# Altium integrated library Analog Devices Data Converters Digital-to-Analog Converters.IntLib: 2231 symbols (part 31 of 181)
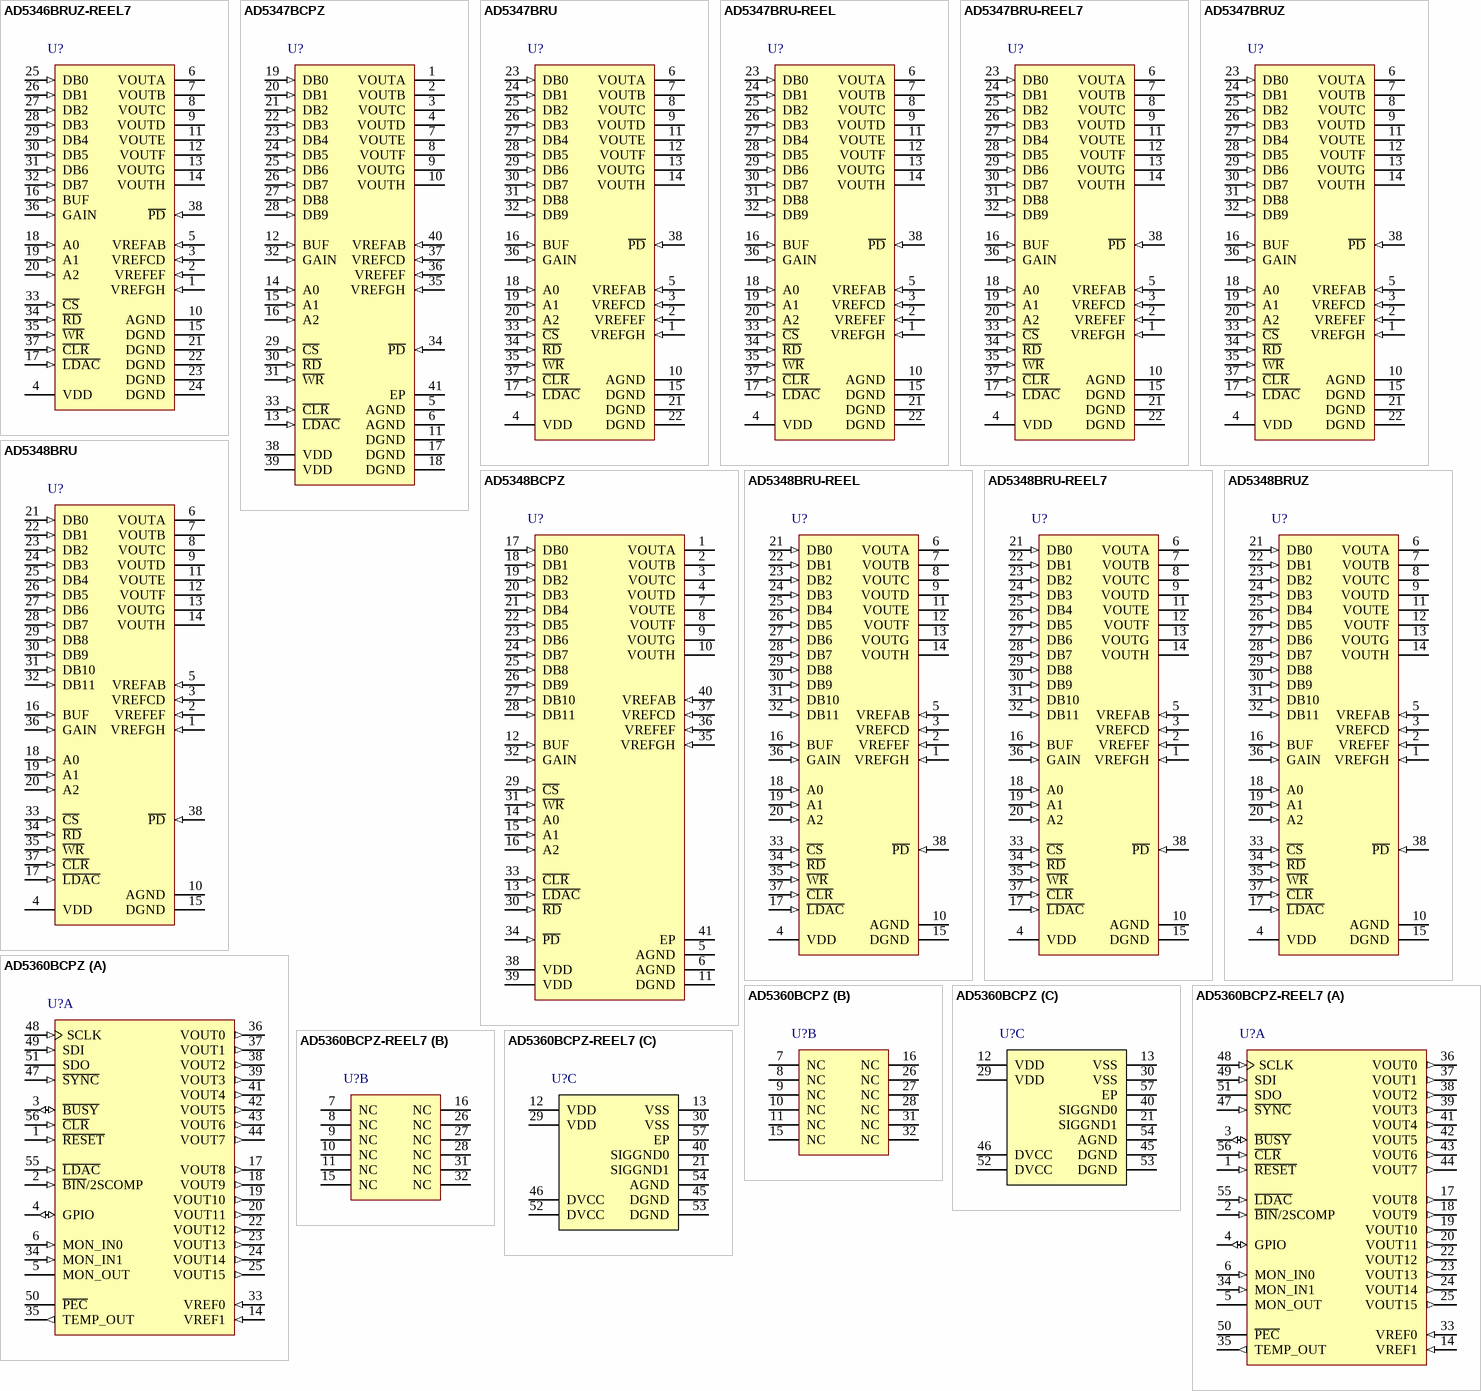
[diagram p144: symbols AD5346BRUZ-REEL7 to AD5360BCPZ-REEL7]

## AD5348BRUZ
designator U?
Octal 12-Bit Voltage Output Digital-to-Analog Converter, 2.5 to 5.5 V, -40 to +105 degC, RU-38, Pb-Free, Tube; Generic Part Number: AD5348; Manufacturer: Analog Devices; PartNumber: AD5348BRUZ; # DAC Outputs: 8; Max V+: 5.5V; Op Pwr Diss: 8.3mW; Resolution (Bits): 12; Settling Time: 8µs; Single Supply: Yes; DatasheetVersion: Rev.0; PackageVersion: Mar-2003; PackageReference: RU-38; PackageDescription: 38-Lead Thin Shrink Small Outline Package [TSSOP]; Supplier 1: Digi-Key; Supplier Part Number 1: AD5348BRUZ-ND; Supplier 2: Newark; Supplier Part Number 2: 59K4018; Supplier 3: Mouser; Supplier Part Number 3: 584-AD5348BRUZ; Packing: Tube; RoHS: Y; Mounting Technology: Surface Mount; Code_JEDEC: MS-153BD-1; ComponentLink1Description: Manufacturer URL; ComponentLink1URL: http://www.analog.com/en/index.html; ComponentLink2Description: Datasheet; ComponentLink2URL: http://www.analog.com/static/imported-files/data_sheets/AD5346_5347_5348.pdf; ComponentLink3Description: Package Specification; ComponentLink3URL: http://www.analog.com/static/imported-files/packages/36817415413609854197792024125RU38.pdf; ComponentLink4Description: Product URL; ComponentLink4URL: http://www.analog.com/en/digital-to-analog-converters/da-converters/ad5348/products/product.html
footprint RU-38_N (TSSOP, 38-Leads, Body 9.7x4.4mm, Pitch 0.5mm, IPC Medium Density)
footprint RU-38_L (TSSOP, 38-Leads, Body 9.7x4.4mm, Pitch 0.5mm, IPC High Density)
footprint RU-38_M (TSSOP, 38-Leads, Body 9.7x4.4mm, Pitch 0.5mm, IPC Low Density)
pins: 1 VREFGH (in) "Reference Input for DACs G and H.", 2 VREFEF (in) "Reference Input for DACs E and F.", 3 VREFCD (in) "Reference Input for DACs C and D.", 4 VDD (power) "Power Supply Pin(s). This part can operate from 2.5 V to 5.5 V, and the supply should be decoupled with a 10 uF capacitor in parallel with a 0.1 uF capacitor to GND. Both VDD pins on the LFCSP package must be at the same (See Datasheet)", 5 VREFAB (in) "Reference Input for DACs A and B.", 6 VOUTA (hiz) "Output of DAC A. Buffered output with rail-to-rail operation.", 7 VOUTB (hiz) "Output of DAC B. Buffered output with rail-to-rail operation.", 8 VOUTC (hiz) "Output of DAC C. Buffered output with rail-to-rail operation.", 9 VOUTD (hiz) "Output of DAC D. Buffered output with rail-to-rail operation.", 10 AGND (power) "Analog Ground. Ground reference for analog circuitry.", 11 VOUTE (hiz) "Output of DAC E. Buffered output with rail-to-rail operation.", 12 VOUTF (hiz) "Output of DAC F. Buffered output with rail-to-rail operation.", 13 VOUTG (hiz) "Output of DAC G. Buffered output with rail-to-rail operation.", 14 VOUTH (hiz) "Output of DAC H. Buffered output with rail-to-rail operation.", 15 DGND (power) "Digital Ground. Ground reference for digital circuitry.", 16 BUF (in) "Buffer Control Pin. Controls whether the reference input to the DAC is buffered or unbuffered.", 17 ~{LDAC} (in) "Active Low Control Input. Updates the DAC registers with the contents of the input registers, which allows all DAC outputs to be simultaneously updated.", 18 A0 (in) "LSB Address Pin. Selects which DAC is to be written to.", 19 A1 (in) "Address Pin. Selects which DAC is to be written to.", 20 A2 (in) "MSB Address Pin. Selects which DAC is to be written to.", 21 DB0 (in) "Twelve Parallel Data Input.", 22 DB1 (in) "Twelve Parallel Data Input.", 23 DB2 (in) "Twelve Parallel Data Input.", 24 DB3 (in) "Twelve Parallel Data Input.", 25 DB4 (in) "Twelve Parallel Data Input.", 26 DB5 (in) "Twelve Parallel Data Input.", 27 DB6 (in) "Twelve Parallel Data Input.", 28 DB7 (in) "Twelve Parallel Data Input.", 29 DB8 (in) "Twelve Parallel Data Input.", 30 DB9 (in) "Twelve Parallel Data Input.", 31 DB10 (in) "Twelve Parallel Data Input.", 32 DB11 (in) "Twelve Parallel Data Input. DB11 is the MSB of these 12 bits.", 33 ~{CS} (in) "Active Low Chip Select Input. Used in conjunction with W\R\ to write data to the parallel interface, or with R\D\ to read back data from a DAC.", 34 ~{RD} (in) "Active Low Read Input. Used in conjunction with C\S\ to read data back from the internal DACs.", 35 ~{WR} (in) "Active Low Write Input. Used in conjunction with C\S\ to write data to the parallel interface.", 36 GAIN (in) "Gain Control Pin. Controls whether the output range from the DAC is 0 V to VREF or 0 V to 2 x VREF.", 37 ~{CLR} (in) "Asynchronous Active Low Control Input. Clears all input registers and DAC registers to zeros.", 38 ~{PD} (in) "Power-Down Pin. This active low control pin puts all DACs into power-down mode."

## AD5360BCPZ
designator U?
16-Bit Digital-to-Analog Converter with Serial Interface, -40 to +85 degC, CP-56-1, Pb-Free, Tray; Generic Part Number: AD5360; Manufacturer: Analog Devices; PartNumber: AD5360BCPZ; # DAC Outputs: 16; Max V+: 16.5V; Op Pwr Diss: 130mW; Settling Time: 20µs; Single Supply: No; DatasheetVersion: Rev.A; PackageVersion: 112805-0; PackageReference: CP-56-1; PackageDescription: 56-Lead Lead Frame Chip Scale Package [LFCSP_VQ], 8 x 8 mm Body, Very Thin Quad; Supplier 1: Digi-Key; Supplier Part Number 1: AD5360BCPZ-ND; Supplier 2: Farnell; Supplier Part Number 2: 1607241; Supplier 3: Mouser; Supplier Part Number 3: 584-AD5360BCPZ; Packing: Tray; Resolution (Bits): 16; RoHS: Y; Mounting Technology: Surface Mount; Code_JEDEC: MO-220-VLLD-2; ComponentLink1Description: Manufacturer URL; ComponentLink1URL: http://www.analog.com/en/index.html; ComponentLink2Description: Datasheet; ComponentLink2URL: http://www.analog.com/static/imported-files/data_sheets/AD5360_5361.pdf; ComponentLink3Description: Package Specification; ComponentLink3URL: http://www.analog.com/static/imported-files/packages/32698137492825CP_56_1.pdf; ComponentLink4Description: Product URL; ComponentLink4URL: http://www.analog.com/en/digital-to-analog-converters/da-converters/ad5360/products/product.html; ComponentLink5Description: Reference Design URL; ComponentLink5URL: http://www.analog.com/en/digital-to-analog-converters/da-converters/ad5360/products/product.html#prod_cross_sell
footprint CP-56-1_N (QFN, 56-Leads, Body 8x8mm, Pitch 0.5mm, Thermal Pad 6.1x6.1mm, IPC Medium Density)
footprint CP-56-1_L (QFN, 56-Leads, Body 8x8mm, Pitch 0.5mm, Thermal Pad 6.1x6.1mm, IPC High Density)
footprint CP-56-1_M (QFN, 56-Leads, Body 8x8mm, Pitch 0.5mm, Thermal Pad 6.1x6.1mm, IPC Low Density)
part A pins: 1 ~{RESET} (in) "Digital Reset Input.", 2 ~{BIN}/2SCOMP (in) "Data Format Digital Input. Connecting this pin to DGND selects offset binary. Connecting this pin to logic 1 selects twos complement. This input has a weak pull-down.", 3 ~{BUSY} (io) "Digital Input/Open-Drain Output. B\U\S\Y\ is open drain when it is an output. See the B\U\S\Y\ and L\D\A\C\ Functions section for more information.", 4 GPIO (io) "Digital I/O Pin. This pin can be configured as an input or output that can be read or programmed high or low via the serial interface. When configured as an input, it has a weak pull-down.", 5 MON_OUT (hiz) "Analog Multiplexer Output. Any DAC output, the MON_IN0 input, or the MON_IN1 input can be switched to this output.", 6 MON_IN0 (in) "Analog Multiplexer Input. Can be switched to MON_OUT.", 14 VREF1 (in) "Reference Input for DAC 8 to DAC 15. This voltage is referred to AGND.", 17 VOUT8 (out) "DAC Output. Buffered analog outputs for each of the 16 DAC channels. Each analog output is capable of driving an output load of 10 k ohm to ground. Typical output impedance of these amplifiers is 0.5 ohm..", 18 VOUT9 (out) "DAC Output. Buffered analog outputs for each of the 16 DAC channels. Each analog output is capable of driving an output load of 10 k ohm to ground. Typical output impedance of these amplifiers is 0.5 ohm..", 19 VOUT10 (out) "DAC Output. Buffered analog outputs for each of the 16 DAC channels. Each analog output is capable of driving an output load of 10 k ohm to ground. Typical output impedance of these amplifiers is 0.5 ohm..", 20 VOUT11 (out) "DAC Output. Buffered analog outputs for each of the 16 DAC channels. Each analog output is capable of driving an output load of 10 k ohm to ground. Typical output impedance of these amplifiers is 0.5 ohm..", 22 VOUT12 (out) "DAC Output. Buffered analog outputs for each of the 16 DAC channels. Each analog output is capable of driving an output load of 10 k ohm to ground. Typical output impedance of these amplifiers is 0.5 ohm..", 23 VOUT13 (out) "DAC Output. Buffered analog outputs for each of the 16 DAC channels. Each analog output is capable of driving an output load of 10 k ohm to ground. Typical output impedance of these amplifiers is 0.5 ohm..", 24 VOUT14 (out) "DAC Output. Buffered analog outputs for each of the 16 DAC channels. Each analog output is capable of driving an output load of 10 k ohm to ground. Typical output impedance of these amplifiers is 0.5 ohm..", 25 VOUT15 (out) "DAC Output. Buffered analog outputs for each of the 16 DAC channels. Each analog output is capable of driving an output load of 10 k ohm to ground. Typical output impedance of these amplifiers is 0.5 ohm..", 33 VREF0 (in) "Reference Input for DAC 0 to DAC 7. This voltage is referred to AGND.", 34 MON_IN1 (in) "Analog Multiplexer Input. Can be switched to MON_OUT.", 35 TEMP_OUT (out) "Provides an output voltage proportional to chip temperature. This is typically 1.46 V at 25degreesC with an output variation of 4.4 mV/degreesC.", 36 VOUT0 (out) "DAC Output. Buffered analog outputs for each of the 16 DAC channels. Each analog output is capable of driving an output load of 10 k ohm to ground. Typical output impedance of these amplifiers is 0.5 ohm..", 37 VOUT1 (out) "DAC Output. Buffered analog outputs for each of the 16 DAC channels. Each analog output is capable of driving an output load of 10 k ohm to ground. Typical output impedance of these amplifiers is 0.5 ohm..", 38 VOUT2 (out) "DAC Output. Buffered analog outputs for each of the 16 DAC channels. Each analog output is capable of driving an output load of 10 k ohm to ground. Typical output impedance of these amplifiers is 0.5 ohm..", 39 VOUT3 (out) "DAC Output. Buffered analog outputs for each of the 16 DAC channels. Each analog output is capable of driving an output load of 10 k ohm to ground. Typical output impedance of these amplifiers is 0.5 ohm..", 41 VOUT4 (out) "DAC Output. Buffered analog outputs for each of the 16 DAC channels. Each analog output is capable of driving an output load of 10 k ohm to ground. Typical output impedance of these amplifiers is 0.5 ohm..", 42 VOUT5 (out) "DAC Output. Buffered analog outputs for each of the 16 DAC channels. Each analog output is capable of driving an output load of 10 k ohm to ground. Typical output impedance of these amplifiers is 0.5 ohm..", 43 VOUT6 (out) "DAC Output. Buffered analog outputs for each of the 16 DAC channels. Each analog output is capable of driving an output load of 10 k ohm to ground. Typical output impedance of these amplifiers is 0.5 ohm..", 44 VOUT7 (out) "DAC Output. Buffered analog outputs for each of the 16 DAC channels. Each analog output is capable of driving an output load of 10 k ohm to ground. Typical output impedance of these amplifiers is 0.5 ohm..", 47 ~{SYNC} (in) "Active Low or S\Y\N\C\ Input for SPI Interface. This is the frame synchronization signal for the SPI serial interface. See Figure 4, Figure 5, and the Serial Interface section for more details.", 48 SCLK (in) "Serial Clock Input for SPI Interface. See Figure 4, Figure 5, and the Serial Interface section for more details.", 49 SDI (in) "Serial Data Input for SPI Interface. See Figure 4, Figure 5, and the Serial Interface section for more details.", 50 ~{PEC} (oc) "Packet Error Check Output. This is an open-drain output with a 50 k ohm pull-up that goes low if the packet error check fails.", 51 SDO (hiz) "Serial Data Output for SPI Interface. See Figure 4, Figure 5, and the Serial Interface section for more details.", 55 ~{LDAC} (in) "Load DAC Logic Input (Active Low). See the B\U\S\Y\ and L\D\A\C\ Functions section for more information.", 56 ~{CLR} (in) "Asynchronous Clear Input (Level Sensitive, Active Low). See the Clear Function section for more information."
part B pins: 7 NC "No Connect.", 8 NC "No Connect.", 9 NC "No Connect.", 10 NC "No Connect.", 11 NC "No Connect.", 15 NC "No Connect.", 16 NC "No Connect.", 26 NC "No Connect.", 27 NC "No Connect.", 28 NC "No Connect.", 31 NC "No Connect.", 32 NC "No Connect."
part C pins: 12 VDD (power) "Positive Analog Power Supply; +9 V to +16.5 V for specified performance. These pins should be decoupled with 0.1 uF ceramic capacitors and 10 uF capacitors.", 13 VSS (power) "Negative Analog Power Supply; -16.5 V to -8 V for specified performance. These pins should be decoupled with 0.1 uF ceramic capacitors and 10 uF capacitors.", 21 SIGGND1 (power) "Reference Ground for DAC 8 to DAC 15. VOUT8 to VOUT15 are referenced to this voltage.", 29 VDD (power) "Positive Analog Power Supply; +9 V to +16.5 V for specified performance. These pins should be decoupled with 0.1 uF ceramic capacitors and 10 uF capacitors.", 30 VSS (power) "Negative Analog Power Supply; -16.5 V to -8 V for specified performance. These pins should be decoupled with 0.1 uF ceramic capacitors and 10 uF capacitors.", 40 SIGGND0 (power) "Reference Ground for DAC 0 to DAC 7. VOUT0 to VOUT7 are referenced to this voltage.", 45 DGND (power) "Ground for All Digital Circuitry. Both DGND pins should be connected to the DGND plane.", 46 DVCC (power) "Logic Power Supply; 2.5 V to 5.5 V. These pins should be decoupled with 0.1 uF ceramic capacitors and 10 uF capacitors.", 52 DVCC (power) "Logic Power Supply; 2.5 V to 5.5 V. These pins should be decoupled with 0.1 uF ceramic capacitors and 10 uF capacitors.", 53 DGND (power) "Ground for All Digital Circuitry. Both DGND pins should be connected to the DGND plane.", 54 AGND (power) "Ground for All Analog Circuitry. The AGND pin should be connected to the AGND plane.", 57 EP (power) "Exposed Paddle."

## AD5360BCPZ-REEL7
designator U?
16-Bit Digital-to-Analog Converter with Serial Interface, -40 to +85 degC, CP-56-1, Pb-Free, Reel; Generic Part Number: AD5360; Manufacturer: Analog Devices; PartNumber: AD5360BCPZ-REEL7; # DAC Outputs: 16; Max V+: 16.5V; Op Pwr Diss: 130mW; Settling Time: 20µs; Single Supply: No; DatasheetVersion: Rev.A; PackageVersion: 112805-0; PackageReference: CP-56-1; PackageDescription: 56-Lead Lead Frame Chip Scale Package [LFCSP_VQ], 8 x 8 mm Body, Very Thin Quad; Supplier 1: Digi-Key; Supplier Part Number 1: AD5360BCPZ-REEL7-ND; Supplier 2: Mouser; Supplier Part Number 2: 584-AD5360BCPZ-R7; Packing: Reel; Resolution (Bits): 16; RoHS: Y; Mounting Technology: Surface Mount; Code_JEDEC: MO-220-VLLD-2; ComponentLink1Description: Manufacturer URL; ComponentLink1URL: http://www.analog.com/en/index.html; ComponentLink2Description: Datasheet; ComponentLink2URL: http://www.analog.com/static/imported-files/data_sheets/AD5360_5361.pdf; ComponentLink3Description: Package Specification; ComponentLink3URL: http://www.analog.com/static/imported-files/packages/32698137492825CP_56_1.pdf; ComponentLink4Description: Product URL; ComponentLink4URL: http://www.analog.com/en/digital-to-analog-converters/da-converters/ad5360/products/product.html; ComponentLink5Description: Reference Design URL; ComponentLink5URL: http://www.analog.com/en/digital-to-analog-converters/da-converters/ad5360/products/product.html#prod_cross_sell
footprint CP-56-1_N (QFN, 56-Leads, Body 8x8mm, Pitch 0.5mm, Thermal Pad 6.1x6.1mm, IPC Medium Density)
footprint CP-56-1_L (QFN, 56-Leads, Body 8x8mm, Pitch 0.5mm, Thermal Pad 6.1x6.1mm, IPC High Density)
footprint CP-56-1_M (QFN, 56-Leads, Body 8x8mm, Pitch 0.5mm, Thermal Pad 6.1x6.1mm, IPC Low Density)
part A pins: 1 ~{RESET} (in) "Digital Reset Input.", 2 ~{BIN}/2SCOMP (in) "Data Format Digital Input. Connecting this pin to DGND selects offset binary. Connecting this pin to logic 1 selects twos complement. This input has a weak pull-down.", 3 ~{BUSY} (io) "Digital Input/Open-Drain Output. B\U\S\Y\ is open drain when it is an output. See the B\U\S\Y\ and L\D\A\C\ Functions section for more information.", 4 GPIO (io) "Digital I/O Pin. This pin can be configured as an input or output that can be read or programmed high or low via the serial interface. When configured as an input, it has a weak pull-down.", 5 MON_OUT (hiz) "Analog Multiplexer Output. Any DAC output, the MON_IN0 input, or the MON_IN1 input can be switched to this output.", 6 MON_IN0 (in) "Analog Multiplexer Input. Can be switched to MON_OUT.", 14 VREF1 (in) "Reference Input for DAC 8 to DAC 15. This voltage is referred to AGND.", 17 VOUT8 (out) "DAC Output. Buffered analog outputs for each of the 16 DAC channels. Each analog output is capable of driving an output load of 10 k ohm to ground. Typical output impedance of these amplifiers is 0.5 ohm..", 18 VOUT9 (out) "DAC Output. Buffered analog outputs for each of the 16 DAC channels. Each analog output is capable of driving an output load of 10 k ohm to ground. Typical output impedance of these amplifiers is 0.5 ohm..", 19 VOUT10 (out) "DAC Output. Buffered analog outputs for each of the 16 DAC channels. Each analog output is capable of driving an output load of 10 k ohm to ground. Typical output impedance of these amplifiers is 0.5 ohm..", 20 VOUT11 (out) "DAC Output. Buffered analog outputs for each of the 16 DAC channels. Each analog output is capable of driving an output load of 10 k ohm to ground. Typical output impedance of these amplifiers is 0.5 ohm..", 22 VOUT12 (out) "DAC Output. Buffered analog outputs for each of the 16 DAC channels. Each analog output is capable of driving an output load of 10 k ohm to ground. Typical output impedance of these amplifiers is 0.5 ohm..", 23 VOUT13 (out) "DAC Output. Buffered analog outputs for each of the 16 DAC channels. Each analog output is capable of driving an output load of 10 k ohm to ground. Typical output impedance of these amplifiers is 0.5 ohm..", 24 VOUT14 (out) "DAC Output. Buffered analog outputs for each of the 16 DAC channels. Each analog output is capable of driving an output load of 10 k ohm to ground. Typical output impedance of these amplifiers is 0.5 ohm..", 25 VOUT15 (out) "DAC Output. Buffered analog outputs for each of the 16 DAC channels. Each analog output is capable of driving an output load of 10 k ohm to ground. Typical output impedance of these amplifiers is 0.5 ohm..", 33 VREF0 (in) "Reference Input for DAC 0 to DAC 7. This voltage is referred to AGND.", 34 MON_IN1 (in) "Analog Multiplexer Input. Can be switched to MON_OUT.", 35 TEMP_OUT (out) "Provides an output voltage proportional to chip temperature. This is typically 1.46 V at 25degreesC with an output variation of 4.4 mV/degreesC.", 36 VOUT0 (out) "DAC Output. Buffered analog outputs for each of the 16 DAC channels. Each analog output is capable of driving an output load of 10 k ohm to ground. Typical output impedance of these amplifiers is 0.5 ohm..", 37 VOUT1 (out) "DAC Output. Buffered analog outputs for each of the 16 DAC channels. Each analog output is capable of driving an output load of 10 k ohm to ground. Typical output impedance of these amplifiers is 0.5 ohm..", 38 VOUT2 (out) "DAC Output. Buffered analog outputs for each of the 16 DAC channels. Each analog output is capable of driving an output load of 10 k ohm to ground. Typical output impedance of these amplifiers is 0.5 ohm..", 39 VOUT3 (out) "DAC Output. Buffered analog outputs for each of the 16 DAC channels. Each analog output is capable of driving an output load of 10 k ohm to ground. Typical output impedance of these amplifiers is 0.5 ohm..", 41 VOUT4 (out) "DAC Output. Buffered analog outputs for each of the 16 DAC channels. Each analog output is capable of driving an output load of 10 k ohm to ground. Typical output impedance of these amplifiers is 0.5 ohm..", 42 VOUT5 (out) "DAC Output. Buffered analog outputs for each of the 16 DAC channels. Each analog output is capable of driving an output load of 10 k ohm to ground. Typical output impedance of these amplifiers is 0.5 ohm..", 43 VOUT6 (out) "DAC Output. Buffered analog outputs for each of the 16 DAC channels. Each analog output is capable of driving an output load of 10 k ohm to ground. Typical output impedance of these amplifiers is 0.5 ohm..", 44 VOUT7 (out) "DAC Output. Buffered analog outputs for each of the 16 DAC channels. Each analog output is capable of driving an output load of 10 k ohm to ground. Typical output impedance of these amplifiers is 0.5 ohm..", 47 ~{SYNC} (in) "Active Low or S\Y\N\C\ Input for SPI Interface. This is the frame synchronization signal for the SPI serial interface. See Figure 4, Figure 5, and the Serial Interface section for more details.", 48 SCLK (in) "Serial Clock Input for SPI Interface. See Figure 4, Figure 5, and the Serial Interface section for more details.", 49 SDI (in) "Serial Data Input for SPI Interface. See Figure 4, Figure 5, and the Serial Interface section for more details.", 50 ~{PEC} (oc) "Packet Error Check Output. This is an open-drain output with a 50 k ohm pull-up that goes low if the packet error check fails.", 51 SDO (hiz) "Serial Data Output for SPI Interface. See Figure 4, Figure 5, and the Serial Interface section for more details.", 55 ~{LDAC} (in) "Load DAC Logic Input (Active Low). See the B\U\S\Y\ and L\D\A\C\ Functions section for more information.", 56 ~{CLR} (in) "Asynchronous Clear Input (Level Sensitive, Active Low). See the Clear Function section for more information."
part B pins: 7 NC "No Connect.", 8 NC "No Connect.", 9 NC "No Connect.", 10 NC "No Connect.", 11 NC "No Connect.", 15 NC "No Connect.", 16 NC "No Connect.", 26 NC "No Connect.", 27 NC "No Connect.", 28 NC "No Connect.", 31 NC "No Connect.", 32 NC "No Connect."
part C pins: 12 VDD (power) "Positive Analog Power Supply; +9 V to +16.5 V for specified performance. These pins should be decoupled with 0.1 uF ceramic capacitors and 10 uF capacitors.", 13 VSS (power) "Negative Analog Power Supply; -16.5 V to -8 V for specified performance. These pins should be decoupled with 0.1 uF ceramic capacitors and 10 uF capacitors.", 21 SIGGND1 (power) "Reference Ground for DAC 8 to DAC 15. VOUT8 to VOUT15 are referenced to this voltage.", 29 VDD (power) "Positive Analog Power Supply; +9 V to +16.5 V for specified performance. These pins should be decoupled with 0.1 uF ceramic capacitors and 10 uF capacitors.", 30 VSS (power) "Negative Analog Power Supply; -16.5 V to -8 V for specified performance. These pins should be decoupled with 0.1 uF ceramic capacitors and 10 uF capacitors.", 40 SIGGND0 (power) "Reference Ground for DAC 0 to DAC 7. VOUT0 to VOUT7 are referenced to this voltage.", 45 DGND (power) "Ground for All Digital Circuitry. Both DGND pins should be connected to the DGND plane.", 46 DVCC (power) "Logic Power Supply; 2.5 V to 5.5 V. These pins should be decoupled with 0.1 uF ceramic capacitors and 10 uF capacitors.", 52 DVCC (power) "Logic Power Supply; 2.5 V to 5.5 V. These pins should be decoupled with 0.1 uF ceramic capacitors and 10 uF capacitors.", 53 DGND (power) "Ground for All Digital Circuitry. Both DGND pins should be connected to the DGND plane.", 54 AGND (power) "Ground for All Analog Circuitry. The AGND pin should be connected to the AGND plane.", 57 EP (power) "Exposed Paddle."

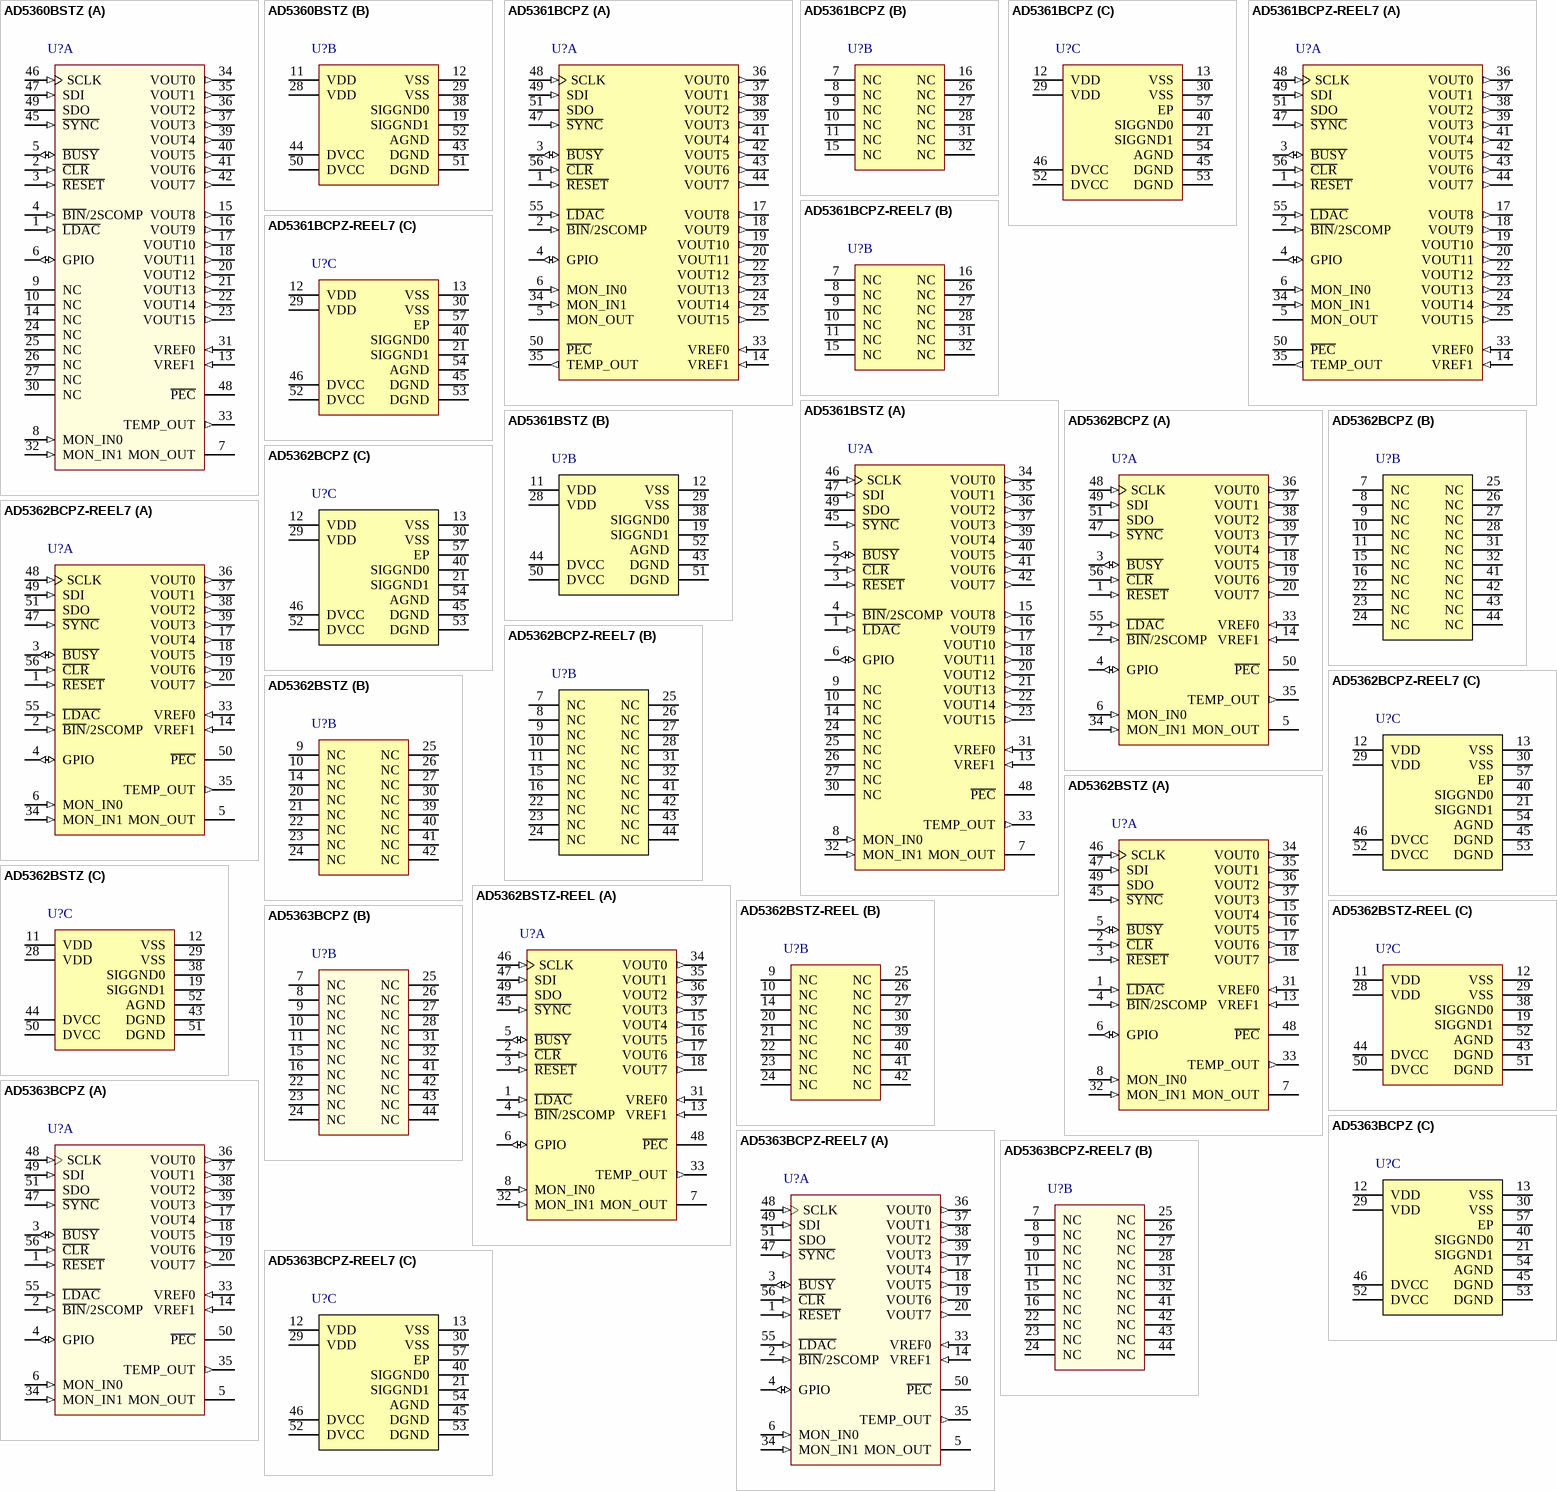
[diagram p19: symbols AD5360BSTZ to AD5363BCPZ-REEL7]

## AD5360BSTZ
designator U?
16-Bit Digital-to-Analog Converter with Serial Interface, -40 to +85 degC, ST-52, Pb-Free, Tray; Generic Part Number: AD5360; Manufacturer: Analog Devices; PartNumber: AD5360BSTZ; # DAC Outputs: 16; Max V+: 16.5V; Op Pwr Diss: 130mW; Settling Time: 20µs; Single Supply: No; DatasheetVersion: Rev.A; PackageVersion: 2003; PackageReference: ST-52; PackageDescription: 52-Lead Low Profile Quad Flat Package [LQFP]; Supplier 1: Digi-Key; Supplier Part Number 1: AD5360BSTZ-ND; Supplier 2: Farnell; Supplier Part Number 2: 1558258; Supplier 3: Newark; Supplier Part Number 3: 34M4961; Supplier 4: Mouser; Supplier Part Number 4: 584-AD5360BSTZ; Packing: Tray; Resolution (Bits): 16; RoHS: Y; Mounting Technology: Surface Mount; Code_JEDEC: MS-026-BCC; ComponentLink1Description: Manufacturer URL; ComponentLink1URL: http://www.analog.com/en/index.html; ComponentLink2Description: Datasheet; ComponentLink2URL: http://www.analog.com/static/imported-files/data_sheets/AD5360_5361.pdf; ComponentLink3Description: Package Specification; ComponentLink3URL: http://www.analog.com/static/imported-files/packages/61012411624300842189414155189544791816408612ST_52_10x10.pdf; ComponentLink4Description: Product URL; ComponentLink4URL: http://www.analog.com/en/digital-to-analog-converters/da-converters/ad5360/products/product.html; ComponentLink5Description: Reference Design URL; ComponentLink5URL: http://www.analog.com/en/digital-to-analog-converters/da-converters/ad5360/products/product.html#prod_cross_sell
footprint ST-52_N (Thin QFP, 52-Leads, Body 10 x 10mm, Pitch 0.65mm, IPC Medium Density)
footprint ST-52_L (Thin QFP, 52-Leads, Body 10 x 10mm, Pitch 0.65mm, IPC High Density)
footprint ST-52_M (Thin QFP, 52-Leads, Body 10 x 10mm, Pitch 0.65mm, IPC Low Density)
part A pins: 1 ~{LDAC} (in) "Load DAC Logic Input (Active Low). See the B\U\S\Y\ and L\D\A\C\ Functions section for more information.", 2 ~{CLR} (in) "Asynchronous Clear Input (Level Sensitive, Active Low). See the Clear Function section for more information.", 3 ~{RESET} (in) "Digital Reset Input.", 4 ~{BIN}/2SCOMP (in) "Data Format Digital Input. Connecting this pin to DGND selects offset binary. Connecting this pin to logic 1 selects twos complement. This input has a weak pull-down.", 5 ~{BUSY} (io) "Digital Input/Open-Drain Output. B\U\S\Y\ is open drain when it is an output. See the B\U\S\Y\ and L\D\A\C\ Functions section for more information.", 6 GPIO (io) "Digital I/O Pin. This pin can be configured as an input or output that can be read or programmed high or low via the serial interface. When configured as an input, it has a weak pull-down.", 7 MON_OUT (hiz) "Analog Multiplexer Output. Any DAC output, the MON_IN0 input, or the MON_IN1 input can be switched to this output.", 8 MON_IN0 (in) "Analog Multiplexer Input. Can be switched to MON_OUT.", 9 NC "No Connect.", 10 NC "No Connect.", 13 VREF1 (in) "Reference Input for DAC 8 to DAC 15. This voltage is referred to AGND.", 14 NC "No Connect.", 15 VOUT8 (out) "DAC Output. Buffered analog outputs for each of the 16 DAC channels. Each analog output is capable of driving an output load of 10 k ohm to ground. Typical output impedance of these amplifiers is 0.5 ohm.", 16 VOUT9 (out) "DAC Output. Buffered analog outputs for each of the 16 DAC channels. Each analog output is capable of driving an output load of 10 k ohm to ground. Typical output impedance of these amplifiers is 0.5 ohm.", 17 VOUT10 (out) "DAC Output. Buffered analog outputs for each of the 16 DAC channels. Each analog output is capable of driving an output load of 10 k ohm to ground. Typical output impedance of these amplifiers is 0.5 ohm.", 18 VOUT11 (out) "DAC Output. Buffered analog outputs for each of the 16 DAC channels. Each analog output is capable of driving an output load of 10 k ohm to ground. Typical output impedance of these amplifiers is 0.5 ohm.", 20 VOUT12 (out) "DAC Output. Buffered analog outputs for each of the 16 DAC channels. Each analog output is capable of driving an output load of 10 k ohm to ground. Typical output impedance of these amplifiers is 0.5 ohm.", 21 VOUT13 (out) "DAC Output. Buffered analog outputs for each of the 16 DAC channels. Each analog output is capable of driving an output load of 10 k ohm to ground. Typical output impedance of these amplifiers is 0.5 ohm.", 22 VOUT14 (out) "DAC Output. Buffered analog outputs for each of the 16 DAC channels. Each analog output is capable of driving an output load of 10 k ohm to ground. Typical output impedance of these amplifiers is 0.5 ohm.", 23 VOUT15 (out) "DAC Output. Buffered analog outputs for each of the 16 DAC channels. Each analog output is capable of driving an output load of 10 k ohm to ground. Typical output impedance of these amplifiers is 0.5 ohm.", 24 NC "No Connect.", 25 NC "No Connect.", 26 NC "No Connect.", 27 NC "No Connect.", 30 NC "No Connect.", 31 VREF0 (in) "Reference Input for DAC 0 to DAC 7. This voltage is referred to AGND.", 32 MON_IN1 (in) "Analog Multiplexer Input. Can be switched to MON_OUT.", 33 TEMP_OUT (out) "Provides an output voltage proportional to chip temperature. This is typically 1.46 V at 25degreesC with an output variation of 4.4 mV/degreesC.", 34 VOUT0 (out) "DAC Output. Buffered analog outputs for each of the 16 DAC channels. Each analog output is capable of driving an output load of 10 k ohm to ground. Typical output impedance of these amplifiers is 0.5 ohm.", 35 VOUT1 (out) "DAC Output. Buffered analog outputs for each of the 16 DAC channels. Each analog output is capable of driving an output load of 10 k ohm to ground. Typical output impedance of these amplifiers is 0.5 ohm.", 36 VOUT2 (out) "DAC Output. Buffered analog outputs for each of the 16 DAC channels. Each analog output is capable of driving an output load of 10 k ohm to ground. Typical output impedance of these amplifiers is 0.5 ohm.", 37 VOUT3 (out) "DAC Output. Buffered analog outputs for each of the 16 DAC channels. Each analog output is capable of driving an output load of 10 k ohm to ground. Typical output impedance of these amplifiers is 0.5 ohm.", 39 VOUT4 (out) "DAC Output. Buffered analog outputs for each of the 16 DAC channels. Each analog output is capable of driving an output load of 10 k ohm to ground. Typical output impedance of these amplifiers is 0.5 ohm.", 40 VOUT5 (out) "DAC Output. Buffered analog outputs for each of the 16 DAC channels. Each analog output is capable of driving an output load of 10 k ohm to ground. Typical output impedance of these amplifiers is 0.5 ohm.", 41 VOUT6 (out) "DAC Output. Buffered analog outputs for each of the 16 DAC channels. Each analog output is capable of driving an output load of 10 k ohm to ground. Typical output impedance of these amplifiers is 0.5 ohm.", 42 VOUT7 (out) "DAC Output. Buffered analog outputs for each of the 16 DAC channels. Each analog output is capable of driving an output load of 10 k ohm to ground. Typical output impedance of these amplifiers is 0.5 ohm.", 45 ~{SYNC} (in) "Active Low or S\Y\N\C\ Input for SPI Interface. This is the frame synchronization signal for the SPI serial interface. See Figure 4, Figure 5,and the Serial Interface section for more details.", 46 SCLK (in) "Serial Clock Input for SPI Interface. See Figure 4, Figure 5, and the Serial Interface section for more details.", 47 SDI (in) "Serial Data Input for SPI Interface. See Figure 4, Figure 5, and the Serial Interface section for more details.", 48 ~{PEC} (oc) "Packet Error Check Output. This is an open-drain output with a 50 k ohm pull-up that goes low if the packet error check fails.", 49 SDO (hiz) "Serial Data Output for SPI Interface. See Figure 4, Figure 5, and the Serial Interface section for more details."
part B pins: 11 VDD (power) "Positive Analog Power Supply; +9 V to +16.5 V for specified performance. These pins should be decoupled with 0.1 uF ceramic capacitors and 10 uF capacitors.", 12 VSS (power) "Negative Analog Power Supply; -16.5 V to -8 V for specified performance. These pins should be decoupled with 0.1 uF ceramic capacitors and 10 uF capacitors.", 19 SIGGND1 (power) "Reference Ground for DAC 8 to DAC 15. VOUT8 to VOUT15 are referenced to this voltage.", 28 VDD (power) "Positive Analog Power Supply; +9 V to +16.5 V for specified performance. These pins should be decoupled with 0.1 uF ceramic capacitors and 10 uF capacitors.", 29 VSS (power) "Negative Analog Power Supply; -16.5 V to -8 V for specified performance. These pins should be decoupled with 0.1 uF ceramic capacitors and 10 uF capacitors.", 38 SIGGND0 (power) "Reference Ground for DAC 0 to DAC 7. VOUT0 to VOUT7 are referenced to this voltage.", 43 DGND (power) "Ground for All Digital Circuitry. Both DGND pins should be connected to the DGND plane.", 44 DVCC (power) "Logic Power Supply; 2.5 V to 5.5 V. These pins should be decoupled with 0.1 uF ceramic capacitors and 10 uF capacitors.", 50 DVCC (power) "Logic Power Supply; 2.5 V to 5.5 V. These pins should be decoupled with 0.1 uF ceramic capacitors and 10 uF capacitors.", 51 DGND (power) "Ground for All Digital Circuitry. Both DGND pins should be connected to the DGND plane.", 52 AGND (power) "Ground for All Analog Circuitry. The AGND pin should be connected to the AGND plane."

## AD5361BCPZ
designator U?
14-Bit Digital-to-Analog Converter with Serial Interface, -40 to +85 degC, CP-56-1, Pb-Free, Tray; Generic Part Number: AD5361; Manufacturer: Analog Devices; PartNumber: AD5361BCPZ; # DAC Outputs: 16; Max V+: 16.5V; Op Pwr Diss: 130mW; Resolution (Bits): 14; Settling Time: 20µs; Single Supply: No; DatasheetVersion: Rev.A; PackageVersion: 112805-0; PackageReference: CP-56-1; PackageDescription: 56-Lead Lead Frame Chip Scale Package [LFCSP_VQ], 8 x 8 mm Body, Very Thin Quad; Supplier 1: Digi-Key; Supplier Part Number 1: AD5361BCPZ-ND; Supplier 2: Farnell; Supplier Part Number 2: 1589548; Supplier 3: Newark; Supplier Part Number 3: 34M4963; Supplier 4: Mouser; Supplier Part Number 4: 584-AD5361BCPZ; Packing: Tray; RoHS: Y; Mounting Technology: Surface Mount; Code_JEDEC: MO-220-VLLD-2; ComponentLink1Description: Manufacturer URL; ComponentLink1URL: http://www.analog.com/en/index.html; ComponentLink2Description: Datasheet; ComponentLink2URL: http://www.analog.com/static/imported-files/data_sheets/AD5360_5361.pdf; ComponentLink3Description: Package Specification; ComponentLink3URL: http://www.analog.com/static/imported-files/packages/32698137492825CP_56_1.pdf; ComponentLink4Description: Product URL; ComponentLink4URL: http://www.analog.com/en/digital-to-analog-converters/da-converters/ad5361/products/product.html
footprint CP-56-1_N (QFN, 56-Leads, Body 8x8mm, Pitch 0.5mm, Thermal Pad 6.1x6.1mm, IPC Medium Density)
footprint CP-56-1_L (QFN, 56-Leads, Body 8x8mm, Pitch 0.5mm, Thermal Pad 6.1x6.1mm, IPC High Density)
footprint CP-56-1_M (QFN, 56-Leads, Body 8x8mm, Pitch 0.5mm, Thermal Pad 6.1x6.1mm, IPC Low Density)
part A pins: 1 ~{RESET} (in) "Digital Reset Input.", 2 ~{BIN}/2SCOMP (in) "Data Format Digital Input. Connecting this pin to DGND selects offset binary. Connecting this pin to logic 1 selects twos complement. This input has a weak pull-down.", 3 ~{BUSY} (io) "Digital Input/Open-Drain Output. B\U\S\Y\ is open drain when it is an output. See the B\U\S\Y\ and L\D\A\C\ Functions section for more information.", 4 GPIO (io) "Digital I/O Pin. This pin can be configured as an input or output that can be read or programmed high or low via the serial interface. When configured as an input, it has a weak pull-down.", 5 MON_OUT (hiz) "Analog Multiplexer Output. Any DAC output, the MON_IN0 input, or the MON_IN1 input can be switched to this output.", 6 MON_IN0 (in) "Analog Multiplexer Inputs. Can be switched to MON_OUT.", 14 VREF1 (in) "Reference Input for DAC 8 to DAC 15. This voltage is referred to AGND.", 17 VOUT8 (out) "DAC Outputs. Buffered analog outputs for each of the 16 DAC channels. Each analog output is capable of driving an output load of 10 kO to ground. Typical output impedance of these amplifiers is 0.5 ohm.", 18 VOUT9 (out) "DAC Outputs. Buffered analog outputs for each of the 16 DAC channels. Each analog output is capable of driving an output load of 10 kO to ground. Typical output impedance of these amplifiers is 0.5 ohm.", 19 VOUT10 (out) "DAC Outputs. Buffered analog outputs for each of the 16 DAC channels. Each analog output is capable of driving an output load of 10 kO to ground. Typical output impedance of these amplifiers is 0.5 ohm.", 20 VOUT11 (out) "DAC Outputs. Buffered analog outputs for each of the 16 DAC channels. Each analog output is capable of driving an output load of 10 kO to ground. Typical output impedance of these amplifiers is 0.5ohm.", 22 VOUT12 (out) "DAC Outputs. Buffered analog outputs for each of the 16 DAC channels. Each analog output is capable of driving an output load of 10 kO to ground. Typical output impedance of these amplifiers is 0.5 ohm.", 23 VOUT13 (out) "DAC Outputs. Buffered analog outputs for each of the 16 DAC channels. Each analog output is capable of driving an output load of 10 kO to ground. Typical output impedance of these amplifiers is 0.5 ohm.", 24 VOUT14 (out) "DAC Outputs. Buffered analog outputs for each of the 16 DAC channels. Each analog output is capable of driving an output load of 10 kO to ground. Typical output impedance of these amplifiers is 0.5 ohm.", 25 VOUT15 (out) "DAC Outputs. Buffered analog outputs for each of the 16 DAC channels. Each analog output is capable of driving an output load of 10 kO to ground. Typical output impedance of these amplifiers is 0.5 ohm.", 33 VREF0 (in) "Reference Input for DAC 0 to DAC 7. This voltage is referred to AGND.", 34 MON_IN1 (in) "Analog Multiplexer Inputs. Can be switched to MON_OUT.", 35 TEMP_OUT (out) "Provides an output voltage proportional to chip temperature. This is typically 1.46 V at 25degreesC with an output variation of 4.4 mV/degreesC.", 36 VOUT0 (out) "DAC Outputs. Buffered analog outputs for each of the 16 DAC channels. Each analog output is capable of driving an output load of 10 kO to ground. Typical output impedance of these amplifiers is 0.5 ohm.", 37 VOUT1 (out) "DAC Outputs. Buffered analog outputs for each of the 16 DAC channels. Each analog output is capable of driving an output load of 10 kO to ground. Typical output impedance of these amplifiers is 0.5 ohm.", 38 VOUT2 (out) "DAC Outputs. Buffered analog outputs for each of the 16 DAC channels. Each analog output is capable of driving an output load of 10 kO to ground. Typical output impedance of these amplifiers is 0.5 ohm.", 39 VOUT3 (out) "DAC Outputs. Buffered analog outputs for each of the 16 DAC channels. Each analog output is capable of driving an output load of 10 kO to ground. Typical output impedance of these amplifiers is 0.5 ohm.", 41 VOUT4 (out) "DAC Outputs. Buffered analog outputs for each of the 16 DAC channels. Each analog output is capable of driving an output load of 10 kO to ground. Typical output impedance of these amplifiers is 0.5 ohm.", 42 VOUT5 (out) "DAC Outputs. Buffered analog outputs for each of the 16 DAC channels. Each analog output is capable of driving an output load of 10 kO to ground. Typical output impedance of these amplifiers is 0.5 ohm.", 43 VOUT6 (out) "DAC Outputs. Buffered analog outputs for each of the 16 DAC channels. Each analog output is capable of driving an output load of 10 kO to ground. Typical output impedance of these amplifiers is 0.5 ohm.", 44 VOUT7 (out) "DAC Outputs. Buffered analog outputs for each of the 16 DAC channels. Each analog output is capable of driving an output load of 10 kO to ground. Typical output impedance of these amplifiers is 0.5 ohm.", 47 ~{SYNC} (in) "Active Low or S\Y\N\C\ Input for SPI Interface. This is the frame synchronization signal for the SPI serial interface. See Figure 4, Figure 5, and the Serial Interface section for more details.", 48 SCLK (in) "Serial Clock Input for SPI Interface. See Figure 4, Figure 5, and the Serial Interface section for more details.", 49 SDI (in) "Serial Data Input for SPI Interface. See Figure 4, Figure 5, and the Serial Interface section for more details.", 50 ~{PEC} (oc) "Packet Error Check Output. This is an open-drain output with a 50 kO pull-up that goes low if the packet error check fails.", 51 SDO (hiz) "Serial Data Output for SPI Interface. See Figure 4, Figure 5, and the Serial Interface section for more details.", 55 ~{LDAC} (in) "Load DAC Logic Input (Active Low). See the B\U\S\Y\ and L\D\A\C\ Functions section for more information.", 56 ~{CLR} (in) "Asynchronous Clear Input (Level Sensitive, Active Low). See the Clear Function section for more information."
part B pins: 7 NC "No Connect.", 8 NC "No Connect.", 9 NC "No Connect.", 10 NC "No Connect.", 11 NC "No Connect.", 15 NC "No Connect.", 16 NC "No Connect.", 26 NC "No Connect.", 27 NC "No Connect.", 28 NC "No Connect.", 31 NC "No Connect.", 32 NC "No Connect."
part C pins: 12 VDD (power) "Positive Analog Power Supply; +9 V to +16.5 V for specified performance. These pins should be decoupled with 0.1 uF ceramic capacitors and 10 uF capacitors.", 13 VSS (power) "Negative Analog Power Supply; -16.5 V to -8 V for specified performance. These pins should be decoupled with 0.1 uF ceramic capacitors and 10 uF capacitors.", 21 SIGGND1 (power) "Reference Ground for DAC 8 to DAC 15. VOUT8 to VOUT15 are referenced to this voltage.", 29 VDD (power) "Positive Analog Power Supply; +9 V to +16.5 V for specified performance. These pins should be decoupled with 0.1 uF ceramic capacitors and 10 uF capacitors.", 30 VSS (power) "Negative Analog Power Supply; -16.5 V to -8 V for specified performance. These pins should be decoupled with 0.1 uF ceramic capacitors and 10 uF capacitors.", 40 SIGGND0 (power) "Reference Ground for DAC 0 to DAC 7. VOUT0 to VOUT7 are referenced to this voltage.", 45 DGND (power) "Ground for All Digital Circuitry. Both DGND pins should be connected to the DGND plane.", 46 DVCC (power) "Logic Power Supply; 2.5 V to 5.5 V. These pins should be decoupled with 0.1 uF ceramic capacitors and 10 uF capacitors.", 52 DVCC (power) "Logic Power Supply; 2.5 V to 5.5 V. These pins should be decoupled with 0.1 uF ceramic capacitors and 10 uF capacitors.", 53 DGND (power) "Ground for All Digital Circuitry. Both DGND pins should be connected to the DGND plane.", 54 AGND (power) "Ground for All Analog Circuitry. The AGND pin should be connected to the AGND plane.", 57 EP (power) "Exposed Paddle."